# Altium schematic symbol library VT.SchLib: 16 symbols
Pins are listed as number, name and electrical type; pins without a type are passive.

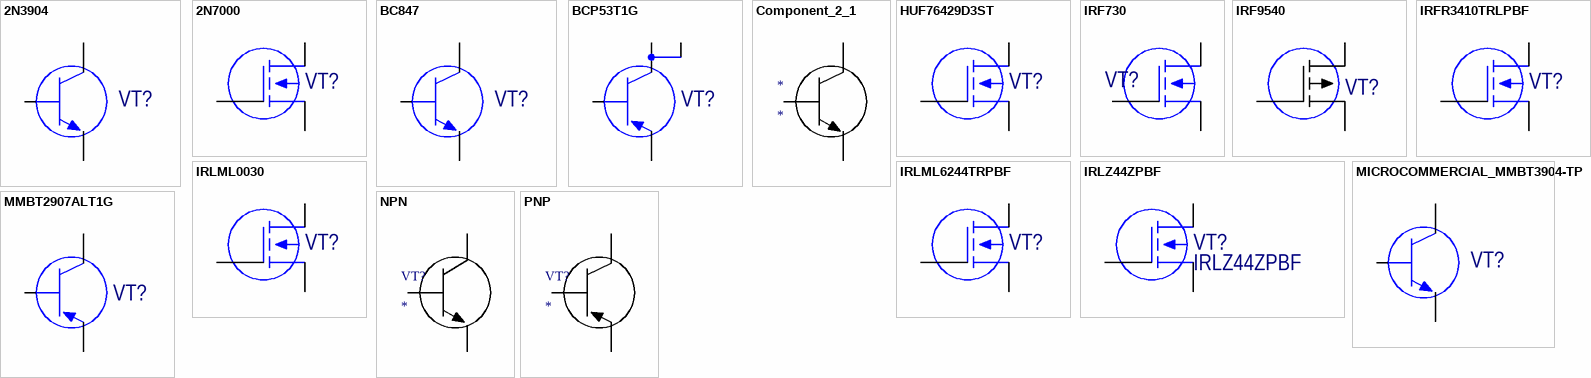
[diagram p0: symbols 2N3904 to PNP]

## 2N3904
designator VT?  (value not drawn)
TRANS NPN 40V 0.2A TO-92; Manufacturer Part Number: 2N3904BU; Manufacturer: ON Semiconductor; TH: 1
footprint TO-92
pins: 1 E, 2 B, 3 C

## 2N7000
designator VT?  (value not drawn)
MOSFET N-CH 60V 200MA TO-92; Manufacturer: ON Semiconductor; Manufacturer Part Number: 2N7000; TH: 1
footprint TO-92
pins: 1, 2, 3

## BC847
designator VT?  (value not drawn)
TRANS NPN 45V 0.1A SOT23; Manufacturer: ON Semiconductor; Manufacturer Part Number: BC847CLT3G; SMD: 1
footprint TP-236 (SOT23) (SOT23, 3-Leads, Body 2,92x2,37mm, Pitch 0,95mm, IPC Low Density)
pins: 1 B, 2 E, 3 C

## BCP53T1G
designator VT?
TRANS PNP 80V 1.5A SOT223; Manufacturer Part Number: BCP53T1G; Manufacturer: ON Semiconductor; SMD: 1
footprint TO-261AA (SOT223) (SOT223, 4-Leads, Body 6,50x7,00mm (avg), Pitch 2,30mm, IPC Low Density)
pins: 1, 2, 3, 4

## Component_2_1
designator *
pins: 1 K, 2 B, 3 C

## HUF76429D3ST
designator VT?  (value not drawn)
MOSFET N-CH 60V 20A DPAK; Manufacturer: ON Semiconductor; Manufacturer Part Number: HUF76429D3ST; SMD: 1
footprint D-PAK (TO-252AA)
pins: 1, 3, 4

## IRF730
designator VT?  (value not drawn)
MOSFET N-CH 400V 5.5A TO-220; Manufacturer: STMicroelectronics; Manufacturer Part Number: IRF730; TH: 1
footprint TO-220-1
pins: 1, 2, 3

## IRF9540
designator VT?  (value not drawn)
TRANS MOSFET P-CH 100V 19A TO-220AB; Manufacturer: Vishay Siliconix; Manufacturer Part Number: IRF9540PBF
footprint TO-220-1
pins: 1 G, 2 D, 3 S

## IRFR3410TRLPBF
designator VT?  (value not drawn)
Trans MOSFET N-CH 100V 31A 3-Pin(2+Tab) DPAK T/R; Manufacturer: Infineon Technologies; Manufacturer Part Number: IRFR3410TRLPBF; Gate to Source Voltage (Vgs): 20V; Rise Time: 27ns; Number of Elements: 1; Power Dissipation: 3W; Turn-On Delay Time: 12ns; Turn-Off Delay Time: 40ns; Fall Time: 13ns; Rds On Max: 39mR; Input Capacitance: 1.69nF; SMD: 1; Supplier 1: Digi-Key; RoHS: Yes; Category: MOSFETs; Stock 1: 3670; Pricing 1: 1=0,91000, 10=0,74800, 25=0,73440, 100=0,58210, 500=0,49342, 1000=0,40194 (USD); Mount: Surface Mount; Case/Package: TO-252-3; Number of Pins: 3; Min Operating Temperature: -55°C; Max Operating Temperature: 175°C; Continuous Drain Current (ID): 31A; Package Quantity: 1; Packaging: Tape and Reel; Drain to Source Voltage (Vdss): 100V; Max Power Dissipation: 3W; Drain to Source Breakdown Voltage: 100V; Drain to Source Resistance: 39mR; On-State Resistance: 39MR; Series: HEXFET®; Drain-source On Resistance-Max: 39MR; Length: 6.73mm; Width: 6.22mm; Height: 2.39mm; Radiation Hardening: No; Lead Free: Lead Free; RoHS Compliant: Yes; ComponentLink1URL: https://datasheet.ciiva.com/16386/irfr3410pbf-16386216.pdf?src-supplier=Future+Electronics; ComponentLink1Description: https://datasheet.ciiva.com/16386/irfr3410pbf-16386216.pdf?src-supplier=Future+Electronics; ComponentLink2URL: https://datasheet.ciiva.com/17317/irfr3410pbf-17317546.pdf?src-supplier=Avnet+Europe; ComponentLink2Description: https://datasheet.ciiva.com/17317/irfr3410pbf-17317546.pdf?src-supplier=Avnet+Europe; ComponentLink3URL: https://datasheet.ciiva.com/6381/irfr3410pbf-6381998.pdf?src-supplier=Digi-Key; ComponentLink3Description: https://datasheet.ciiva.com/6381/irfr3410pbf-6381998.pdf?src-supplier=Digi-Key; ComponentLink4URL: https://datasheet.ciiva.com/6381/irfr3410pbf-6381999.pdf?src-supplier=Digi-Key; ComponentLink4Description: https://datasheet.ciiva.com/6381/irfr3410pbf-6381999.pdf?src-supplier=Digi-Key; Supplier Part Number 1: IRFR3410TRPBFCT-ND
footprint D-PAK (TO-252AA)
pins: 1, 3, 4

## IRLML0030
designator VT?  (value not drawn)
MOSFET N-CH 30V 5.3A SOT-23; Manufacturer: International Rectifier; Manufacturer Part Number: IRLML0030; SMD: 1
footprint TP-236 (SOT23) (SOT23, 3-Leads, Body 2,92x2,37mm, Pitch 0,95mm, IPC Low Density)
pins: 1, 2, 3

## IRLML6244TRPBF
designator VT?  (value not drawn)
MOSFET N-CH 20V 6.3A SOT-23; Manufacturer: Infineon Technologies; Manufacturer Part Number: IRLML6244TRPBF; SMD: 1
footprint TP-236 (SOT23) (SOT23, 3-Leads, Body 2,92x2,37mm, Pitch 0,95mm, IPC Low Density)
pins: 1, 2, 3

## IRLZ44ZPBF
designator VT?
Mosfet, Power; N-ch; Vdss 55V; Rds(on) 11 Milliohms; Id 51A; TO-220AB; Pd 80W; Vgs +/-1; Manufacturer: Infineon; Turn-Off Delay Time: 25ns; Turn-On Delay Time: 14ns; Gate to Source Voltage (Vgs): 16V; Rds On Max: 13.5mR; Input Capacitance: 1.62nF; Threshold Voltage: 3V; Manufacturer Part Number: IRLZ44ZPBF; SMD: 1; Supplier 1: Digi-Key; RoHS: Yes; Category: MOSFETs; Stock 1: 894; Pricing 1: 1=0,99000, 10=0,80900, 25=0,79360, 100=0,62900, 500=0,53312, 1000=0,43428, 2500=0,40882, 5000=0,38935, 9000=0,37138 (USD); Mount: Through Hole; Case/Package: TO-220; Number of Pins: 3; Min Operating Temperature: -55°C; Max Operating Temperature: 175°C; Continuous Drain Current (ID): 51A; Packaging: Rail/Tube; Drain to Source Voltage (Vdss): 55V; Max Power Dissipation: 80W; Power Dissipation: 80W; Drain to Source Resistance: 13.5mR; Drain to Source Breakdown Voltage: 55V; Max Dual Supply Voltage: 55V; Length: 0.42inch; Width: 0.19inch; Height: 0.355inch; REACH SVHC: No SVHC; Lead Free: Lead Free; Halogen Free: Halogen Free; ComponentLink1URL: https://www.alliedelec.com/m/d/70120db00d0e5fce2d9d1cdc11763a32.pdf?src-supplier=Allied+Electronics; ComponentLink1Description: https://www.alliedelec.com/m/d/70120db00d0e5fce2d9d1cdc11763a32.pdf?src-supplier=Allied+Electronics; ComponentLink2URL: http://www.infineon.com/dgdl/irlz44zpbf.pdf?fileId=5546d462533600a4015356722836272a&src-supplier=Digi-Key; ComponentLink2Description: http://www.infineon.com/dgdl/irlz44zpbf.pdf?fileId=5546d462533600a4015356722836272a&src-supplier=Digi-Key; ComponentLink3URL: http://www.farnell.com/datasheets/786211.pdf?src-supplier=Element14; ComponentLink3Description: http://www.farnell.com/datasheets/786211.pdf?src-supplier=Element14; Supplier Part Number 1: IRLZ44ZPBF-ND
footprint TO-220-1
pins: 1, 2, 3

## MICROCOMMERCIAL_MMBT3904-TP
designator VT?  (value not drawn)
TRANS NPN 40V 0.2A SOT23; Manufacturer: Micro Commercial Co; Manufacturer Part Number: MMBT3904-TP; SMD: 1
footprint TP-236 (SOT23) (SOT23, 3-Leads, Body 2,92x2,37mm, Pitch 0,95mm, IPC Low Density)
pins: 1 B, 2 E, 3 C

## MMBT2907ALT1G
designator VT?
TRANS PNP 60V 0.6A SOT23; Manufacturer Part Number: MMBT2907ALT1G; Manufacturer: ON Semiconductor; SMD: 1
footprint TP-236 (SOT23) (SOT23, 3-Leads, Body 2,92x2,37mm, Pitch 0,95mm, IPC Low Density)
pins: 1, 2, 3

## NPN
designator VT?
pins: 1 K, 2 B, 3 C

## PNP
designator VT?
pins: 1 K, 2 B, 3 C